# EAGLE library part IPOD-CONNECTOR (library STM32F4-DISCOVERY)
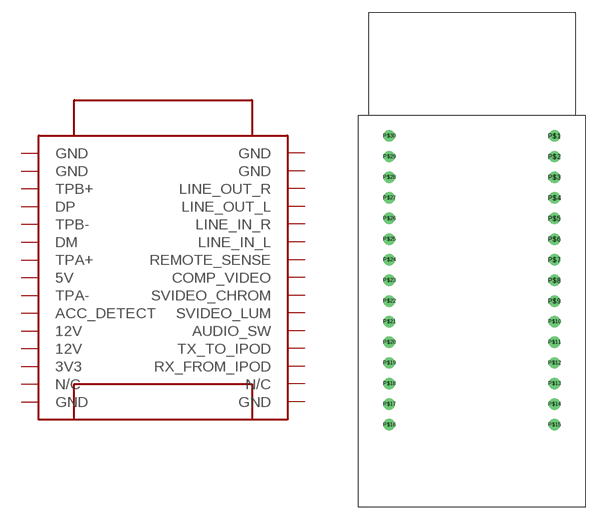
[diagram p1: symbol with the pads of IPOD-CONNECTOR; footprint IPOD-CONNECTOR]

Designator prefix -

## IPOD-CONNECTOR  [IPOD-CONNECTOR]
P$1  GND
P$2  GND
P$3  LINE_OUT_R
P$4  LINE_OUT_L
P$5  LINE_IN_R
P$6  LINE_IN_L
P$7  REMOTE_SENSE
P$8  COMP_VIDEO
P$9  SVIDEO_CHROM
P$10  SVIDEO_LUM
P$11  AUDIO_SW
P$12  TX_TO_IPOD
P$13  RX_FROM_IPOD
P$14  N/C
P$15  GND
P$16  GND
P$17  N/C
P$18  3V3
P$19  12V
P$20  12V
P$21  ACC_DETECT
P$22  TPA-
P$23  5V
P$24  TPA+
P$25  DM
P$26  TPB-
P$27  DP
P$28  TPB+
P$29  GND
P$30  GND

## Footprint IPOD-CONNECTOR (pad centres in mm)
drill 0.9: P$1 10.16,17.78; P$2 10.16,15.24; P$3 10.16,12.7; P$4 10.16,10.16; P$5 10.16,7.62; P$6 10.16,5.08; P$7 10.16,2.54; P$8 10.16,0; P$9 10.16,-2.54; P$10 10.16,-5.08; P$11 10.16,-7.62; P$12 10.16,-10.16; P$13 10.16,-12.7; P$14 10.16,-15.24; P$15 10.16,-17.78; P$16 -10.16,-17.78; P$17 -10.16,-15.24; P$18 -10.16,-12.7; P$19 -10.16,-10.16; P$20 -10.16,-7.62; P$21 -10.16,-5.08; P$22 -10.16,-2.54; P$23 -10.16,0; P$24 -10.16,2.54; P$25 -10.16,5.08; P$26 -10.16,7.62; P$27 -10.16,10.16; P$28 -10.16,12.7; P$29 -10.16,15.24; P$30 -10.16,17.78